# EAGLE library part ?M14B-SRSS-TB (library jack_connector)
Disconnectable Crimp style connector, 1.0mm pitch 14 contacts
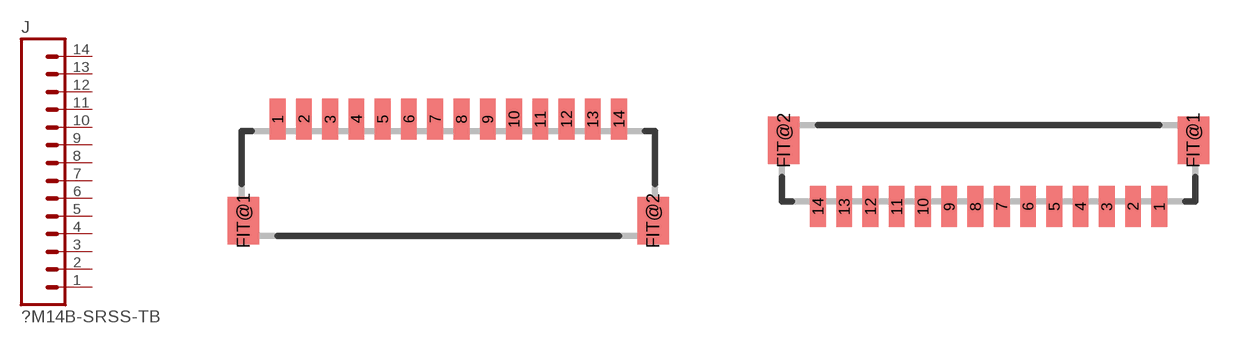
[diagram p13: symbol with the pads of SM14B-SRSS-TB; footprints SM14B-SRSS-TB, BM14B-SRSS-TB]

Designator prefix J

## SM14B-SRSS-TB  [SM14B-SRSS-TB]
1  1  pas
2  2  pas
3  3  pas
4  4  pas
5  5  pas
6  6  pas
7  7  pas
8  8  pas
9  9  pas
10  10  pas
11  11  pas
12  12  pas
13  13  pas
14  14  pas

## BM14B-SRSS-TB  [BM14B-SRSS-TB]
Pads as for SM14B-SRSS-TB

## Footprint SM14B-SRSS-TB (pad centres in mm)
Shrouded Header, side entry type https://www.digikey.com/product-detail/en/jst-sales-america-inc/SM14B-SRSS-TB-LF-SN/455-1814-1-ND/926885
smd 0.6 x 1.55: 1 -6.5,2.975; 2 -5.5,2.975; 3 -4.5,2.975; 4 -3.5,2.975; 5 -2.5,2.975; 6 -1.5,2.975; 7 -0.5,2.975; 8 0.5,2.975; 9 1.5,2.975; 10 2.5,2.975; 11 3.5,2.975; 12 4.5,2.975; 13 5.5,2.975; 14 6.5,2.975
smd 1.2 x 1.8: FIT@1 -7.8,-0.9; FIT@2 7.8,-0.9

## Footprint BM14B-SRSS-TB (pad centres in mm)
Shrouded Header, top entry type https://www.digikey.com/product-detail/en/jst-sales-america-inc/BM14B-SRSS-TB-LF-SN/455-1800-1-ND/926871
smd 0.6 x 1.55: 1 6.5,-1.625; 2 5.5,-1.625; 3 4.5,-1.625; 4 3.5,-1.625; 5 2.5,-1.625; 6 1.5,-1.625; 7 0.5,-1.625; 8 -0.5,-1.625; 9 -1.5,-1.625; 10 -2.5,-1.625; 11 -3.5,-1.625; 12 -4.5,-1.625; 13 -5.5,-1.625; 14 -6.5,-1.625
smd 1.2 x 1.8: FIT@1 7.8,0.9; FIT@2 -7.8,0.9